# Altium footprint library 74HC04D_Inverter.PcbLib: 1 footprints
Each footprint in its own frame and in the unit in brackets; x right, y up, seen from the top. Pads: shape width x height; smd on the part's side, far side on the other; paste and mask are expansions set on the pad; w line width, h text height; cw(c..) or ccw(c..) is an arc to the next point about the centre after c.
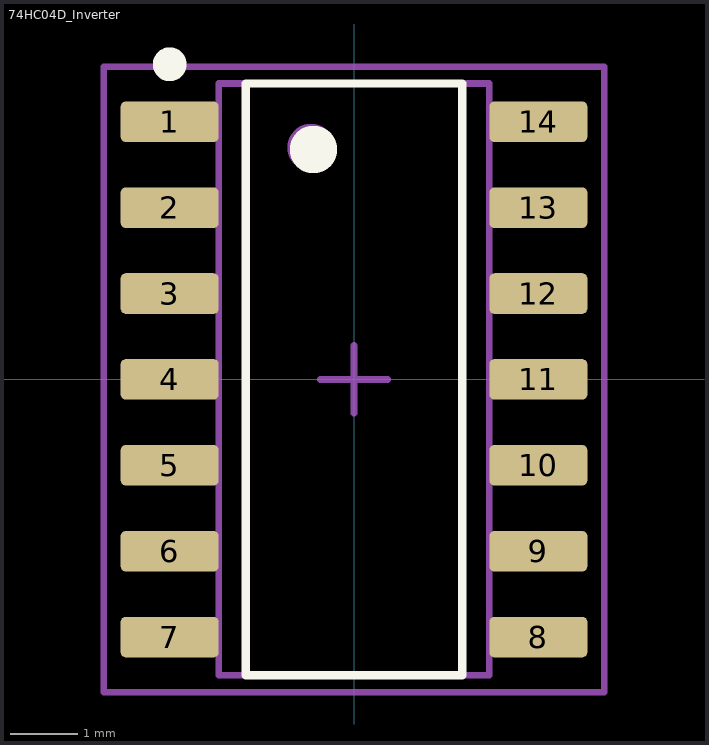
[diagram p0: the footprint, top view; thin cyan lines are the x and y axes]

## 74HC04D_Inverter [mm]
pads (14):
  rrect25% 1.45x0.6 smd: 1(-2.725,3.81) 2(-2.725,2.54) 3(-2.725,1.27) 4(-2.725,0) 5(-2.725,-1.27) 6(-2.725,-2.54) 7(-2.725,-3.81) 8(2.725,-3.81) 9(2.725,-2.54) 10(2.725,-1.27) 11(2.725,0) 12(2.725,1.27) 13(2.725,2.54) 14(2.725,3.81)
Top Overlay:
  circle w0.25: c-2.725,4.66 r0.125
  circle w0.6: c-0.6,3.4 r0.05
  lines w0.12: -1.6,-4.375 -1.6,4.375 1.6,4.375 1.6,-4.375 -1.6,-4.375
Mechanical 1:
  circle w0.6: c-0.635,3.429 r0.05
  lines w0.1: -3.7,-4.625 3.7,-4.625 3.7,4.625 -3.7,4.625 -3.7,-4.625 ; -2,-4.375 2,-4.375 2,4.375 -2,4.375 -2,-4.375
  text ".Designator" at 0,0.315 h1
Mechanical 15:
  lines w0.1: -0.5,0 0.5,0 ; 0,-0.5 0,0.5
3D body "SOIC-14akaD0014AakaM14A.stp": height 1.59, standoff -0.01, extent -3.023,-4.318 3.023,4.318